# Altium footprint library Displays.PcbLib: 4 footprints
Each footprint in its own frame and in the unit in brackets; x right, y up, seen from the top. Pads: shape width x height; smd on the part's side, far side on the other; paste and mask are expansions set on the pad; w line width, h text height; cw(c..) or ccw(c..) is an arc to the next point about the centre after c.
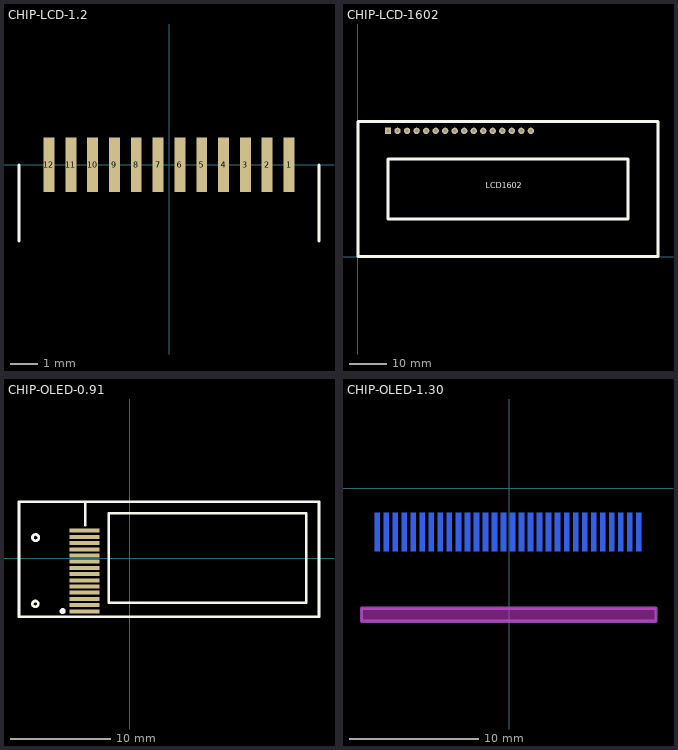
[diagram p0: the footprints below, top view; thin cyan lines are the x and y axes]

## CHIP-LCD-1.2 [mm] "1.2inch LCD"
pads (12):
  rect 0.4x2 smd: 1(4.4,0) 2(3.6,0) 3(2.8,0) 4(2,0) 5(1.2,0) 6(0.4,0) 7(-0.4,0) 8(-1.2,0) 9(-2,0) 10(-2.8,0) 11(-3.6,0) 12(-4.4,0)
Top Overlay:
  lines w0.127: -5.5,-2.78 -5.5,-0.01 ; 5.5,-2.78 5.5,-0.01

## CHIP-LCD-1602 [mm] "CHIP"
pads (16):
  rect 1.7x1.7 hole 0.9: 1(8.001,33.528)
  round 1.7 hole 0.9: 2(10.541,33.528) 3(13.081,33.528) 4(15.621,33.528) 5(18.161,33.528) 6(20.701,33.528) 7(23.241,33.528) 8(25.781,33.528) 9(28.321,33.528) 10(30.861,33.528) 11(33.401,33.528) 12(35.941,33.528) 13(38.481,33.528) 14(41.021,33.528) 15(43.561,33.528) 16(46.101,33.528)
Top Overlay:
  lines w0.762: 0.001,0.028 80.001,0.028 80.001,36.028 0.001,36.028 0.001,0.028 ; 8.001,10.028 72.001,10.028 72.001,26.028 8.001,26.028 8.001,10.028
  text "LCD1602" at 34.037,18.248 h1.52
3D body "1602LCD.STEP": height 9, standoff -3.7, extent -0.146,0.418 79.854,35.418

## CHIP-OLED-0.91 [mm] "Chip SSD1306 15P"
pads (14):
  rect 3x0.4 smd: 1(-4.5,-5.288) 2(-4.5,-4.668) 3(-4.5,-4.048) 4(-4.5,-3.428) 5(-4.5,-2.808) 6(-4.5,-2.188) 7(-4.5,-1.568) 8(-4.5,-0.948) 9(-4.5,-0.328) 10(-4.5,0.292) 11(-4.5,0.912) 12(-4.5,1.532) 13(-4.5,2.152) 14(-4.5,2.772)
Top Overlay:
  circle w0.5: c-6.7,-5.27 r0.054
  circle w0.254: c-9.44,-4.54 r0.292
  circle w0.254: c-9.415,2.09 r0.316
  lines w0.254: -4.46,3.31 -4.46,5.66 ; -11.07,-5.82 18.93,-5.82 18.93,5.68 -11.07,5.68 -11.07,1.48 -11.07,-5.82 ; -2.1,-4.44 17.65,-4.44 17.65,4.5 -2.1,4.5 -2.1,-4.44

## CHIP-OLED-1.30 [mm] "Chip SSD1306 15P"
pads (30):
  rect 0.4x3 smd far side: 1(-10.25,-3.4) 2(-9.55,-3.4) 3(-8.85,-3.4) 4(-8.15,-3.4) 5(-7.45,-3.4) 6(-6.75,-3.4) 7(-6.05,-3.4) 8(-5.35,-3.4) 9(-4.65,-3.4) 10(-3.95,-3.4) 11(-3.25,-3.4) 12(-2.55,-3.4) 13(-1.85,-3.4) 14(-1.15,-3.4) 15(-0.45,-3.4) 16(0.25,-3.4) 17(0.95,-3.4) 18(1.65,-3.4) 19(2.35,-3.4) 20(3.05,-3.4) 21(3.75,-3.4) 22(4.45,-3.4) 23(5.15,-3.4) 24(5.85,-3.4) 25(6.55,-3.4) 26(7.25,-3.4) 27(7.95,-3.4) 28(8.65,-3.4) 29(9.35,-3.4) 30(10.05,-3.4)
Bottom Overlay:
  circle w0.4: c7.901,-8.134 r0.201
  circle w0.4: c-8.101,-8.134 r0.201
  circle w0.254: c-11.05,-1.55 r0.1
  lines w0.254: -11.1,-3.387 -11.1,-7.385 -5.92,-10.275 5.9,-10.275 10.9,-7.385 10.9,-3.387
Keep-Out Layer:
  board cut-out: -11.474,-10.341 11.386,-10.341 11.386,-9.325 -11.474,-9.325
Mechanical 1:
  lines w0.254: -11.474,-10.341 11.386,-10.341 11.386,-9.325 -11.474,-9.325 -11.474,-10.341
3D body "User Library-OLED-1_3C.step": height 3.98, standoff -0.73, extent -17.315,-10.545 17.185,15.543